# Altium footprint library PassiveComponents.PcbLib: 24 footprints (part 2 of 2)
Each footprint in its own frame and in the unit in brackets; x right, y up, seen from the top. Pads: shape width x height; smd on the part's side, far side on the other; paste and mask are expansions set on the pad; w line width, h text height; cw(c..) or ccw(c..) is an arc to the next point about the centre after c.
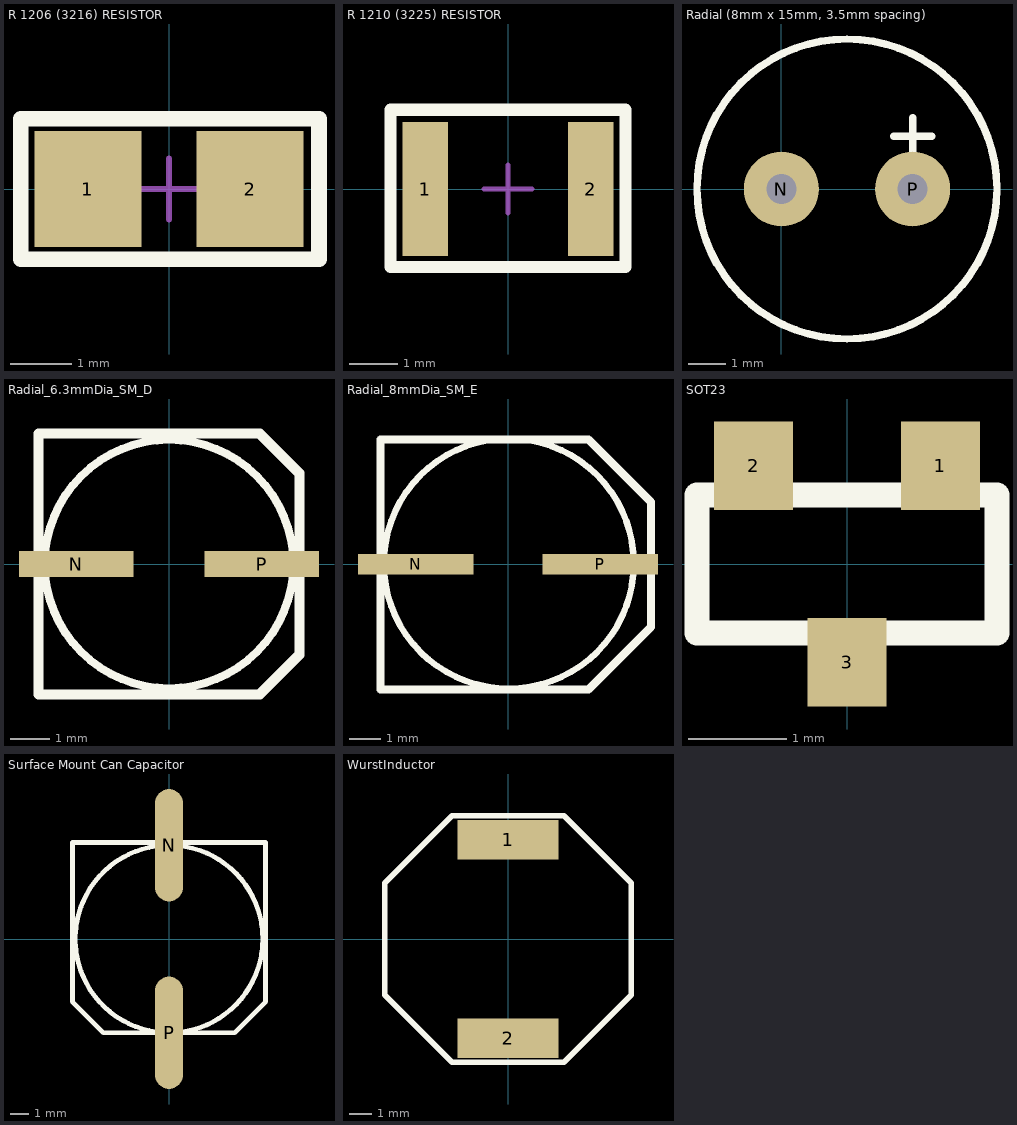
[diagram p1: the footprints below, top view; thin cyan lines are the x and y axes]

## R 1206 (3216) RESISTOR [mm] "1206 (3216) Resistor"
height 1.25
pads (2):
  rect 1.75x1.9 smd: 1(-1.325,0) 2(1.325,0)
Top Overlay:
  lines w0.254: -2.425,-1.15 2.45,-1.15 2.45,1.15 -2.425,1.15 -2.425,-1.125
Mechanical 15:
  lines w0.1: -0.5,0 0.5,0 ; 0,-0.5 0,0.5 ; -2.45,-1.15 -2.45,1.15 2.45,1.15 2.45,-1.15 -2.45,-1.15
3D body: height 1.26, standoff 0, extent 0.825,-0.913 1.725,0.913
3D body: height 1.26, standoff 0, extent -1.725,-0.913 -0.825,0.913
3D body: height 1.25, standoff 0, extent -1.7,-0.9 1.7,0.9

## R 1210 (3225) RESISTOR [mm] "1210 (3225) Resistor"
height 1.8
pads (2):
  rect 0.95x2.8 smd: 1(-1.725,0) 2(1.725,0)
Top Overlay:
  lines w0.254: -2.45,-1.625 -2.45,1.65 2.45,1.65 2.45,-1.625 -2.45,-1.625
Mechanical 15:
  lines w0.1: -0.5,0 0.5,0 ; 0,-0.5 0,0.5 ; -2.45,-1.65 2.45,-1.65 2.45,1.65 -2.45,1.65 -2.45,-1.65
3D body: height 1.81, standoff 0, extent 1.075,-1.425 1.825,1.425
3D body: height 1.81, standoff 0, extent -1.825,-1.425 -1.075,1.425
3D body: height 1.8, standoff 0, extent -1.8,-1.4 1.8,1.4

## Radial (8mm x 15mm, 3.5mm spacing) [mm]
height 15
pads (2):
  round 2 hole 0.8: N(0,0) P(3.5,0)
Top Overlay:
  circle w0.2: c1.75,0 r4
  lines w0.2: 2.992,1.4 4.008,1.4 ; 3.5,0.884 3.5,1.9
3D body: height 15, standoff 0, extent -2.262,-4.012 5.762,4.012
3D body: height 14.9, standoff 0, extent -2.35,-3.163 3.626,2.825

## Radial_6.3mmDia_SM_D [mm] "Surface Mount Aluminum Electrolytic Capacitor"
height 5.8
pads (2):
  rect 2.9x0.65 smd: N(-2.35,0) P(2.35,0)
Top Overlay:
  circle w0.203: c0,0 r3.15
  lines w0.254: -3.3,-3.3 2.3,-3.3 3.3,-2.3 3.3,2.3 2.3,3.3 -3.3,3.3 -3.3,-3.3
3D body: height 5.8, standoff 0, extent -3.159,-3.159 3.159,3.159

## Radial_8mmDia_SM_E [mm] "Surface Mount Aluminum Electrolytic Capacitor"
height 6.2
pads (2):
  rect 3.7x0.65 smd: N(-2.95,0) P(2.95,0)
Top Overlay:
  circle w0.203: c0.025,0.025 r4
  lines w0.254: -4.075,-4 2.575,-4 4.575,-2 4.575,2 2.575,4 -4.075,4 -4.075,-4
3D body: height 6.2, standoff 0, extent -3.987,-3.987 4.037,4.037

## SOT23 [mm]
pads (3):
  rect 0.8x0.9 smd: 1(0.95,1) 2(-0.95,1) 3(0,-1)
Top Overlay:
  lines w0.254: -1.525,-0.7 1.525,-0.7 1.525,0.7 -1.525,0.7 -1.525,-0.7
3D body: height 1.11, standoff 0, extent -1.524,-0.699 1.524,0.699

## Surface Mount Can Capacitor [mm] "10mm diameter, 10.2mm height, Size Code G"
height 10.2
pads (2):
  oval 1.5x6 all layers, no hole: N(0,5) P(0,-5)
Top Overlay:
  circle w0.254: c0,0 r5
  lines w0.254: -5.15,-3.35 -5.15,5.15 5.15,5.15 5.15,-3.35 3.5,-5 -3.5,-5 -5.15,-3.35
3D body: height 3, standoff 0, extent -5.15,-5 5.15,5.15
3D body: height 10.2, standoff 0, extent -4.96,-4.99 5,4.99

## WurstInductor [mm]
height 3.8
pads (2):
  rect 4.6x1.8 smd: 1(0,4.5) 2(0,-4.5)
Top Overlay:
  lines w0.254: -5.588,-2.54 -5.588,2.54 -2.54,5.588 2.54,5.588 5.588,2.54 5.588,-2.54 2.54,-5.588 -2.54,-5.588 -5.588,-2.54
3D body: height 3.8, standoff 0, extent -5.588,-5.588 5.588,5.588